# Altium schematic symbol library SSM-104-L-SH.SchLib: 1 symbol
Pins are listed as number, name and electrical type; pins without a type are passive.

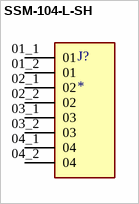
[diagram p0: symbol SSM-104-L-SH]

## SSM-104-L-SH
designator J?
MF: {'manufacturer': u'Samtec'}; MP: SSM-104-L-SH; Package: None; Price: None; Value: *; Availability: Unavailable
footprint SAMTEC_SSM-104-L-SH
pins: 01_1 01, 01_2 01, 02_1 02, 02_2 02, 03_1 03, 03_2 03, 04_1 04, 04_2 04